# Altium footprint library MP6570GR-xxxx-P.PcbLib: 3 footprints
Each footprint in its own frame and in the unit in brackets; x right, y up, seen from the top. Pads: shape width x height; smd on the part's side, far side on the other; paste and mask are expansions set on the pad; w line width, h text height; cw(c..) or ccw(c..) is an arc to the next point about the centre after c.
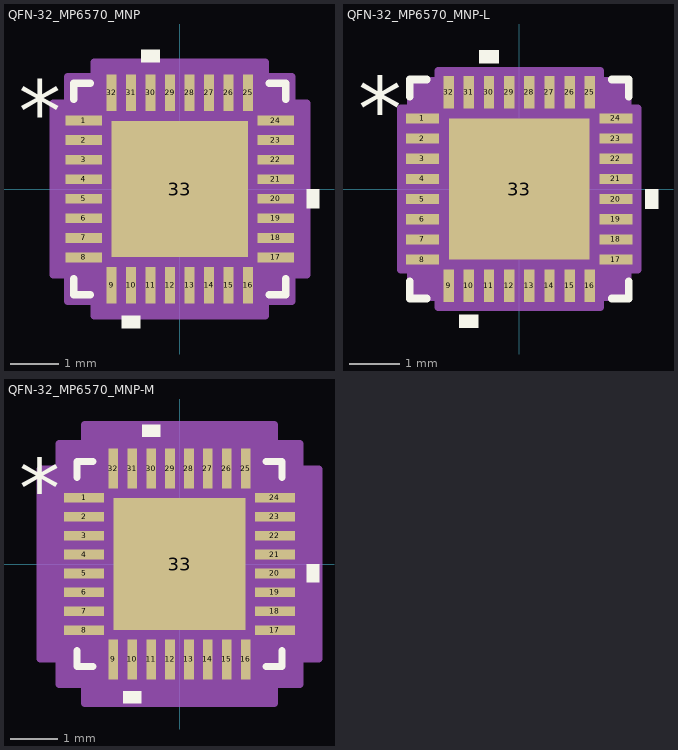
[diagram p0: the footprints below, top view; thin cyan lines are the x and y axes]

## QFN-32_MP6570_MNP [mm]
pads (33):
  rect 0.75x0.204 smd paste+0 mask+0: 1(-1.97,1.4) 2(-1.97,1) 3(-1.97,0.6) 4(-1.97,0.2) 5(-1.97,-0.2) 6(-1.97,-0.6) 7(-1.97,-1) 8(-1.97,-1.4) 17(1.97,-1.4) 18(1.97,-1) 19(1.97,-0.6) 20(1.97,-0.2) 21(1.97,0.2) 22(1.97,0.6) 23(1.97,1) 24(1.97,1.4)
  rect 0.204x0.75 smd paste+0 mask+0: 9(-1.4,-1.97) 10(-1,-1.97) 11(-0.6,-1.97) 12(-0.2,-1.97) 13(0.2,-1.97) 14(0.6,-1.97) 15(1,-1.97) 16(1.4,-1.97) 25(1.4,1.97) 26(1,1.97) 27(0.6,1.97) 28(0.2,1.97) 29(-0.2,1.97) 30(-0.6,1.97) 31(-1,1.97) 32(-1.4,1.97)
  rect 2.794x2.794 smd paste-1.397 mask+0: 33(0,0)
Top Overlay:
  region: -0.409,2.599 -0.79,2.599 -0.79,2.853 -0.409,2.853
  region: 2.599,-0.009 2.853,-0.009 2.853,-0.39 2.599,-0.39
  region: -0.81,-2.599 -1.191,-2.599 -1.191,-2.853 -0.81,-2.853
  lines w0.152: -2.172,-1.835 -2.172,-2.172 -1.835,-2.172 ; -2.172,1.835 -2.172,2.172 -1.835,2.172 ; 1.835,-2.172 2.172,-2.172 2.172,-1.835 ; 1.835,2.172 2.172,2.172 2.172,1.835
  text "*" at -3.297,0.965 h1.27
Top Paste:
  region: 1.297,-0.1 0.1,-0.1 0.1,-1.297 1.297,-1.297
  region: 1.297,1.297 0.1,1.297 0.1,0.1 1.297,0.1
  region: -0.1,-0.1 -1.297,-0.1 -1.297,-1.297 -0.1,-1.297
  region: -0.1,1.297 -1.297,1.297 -1.297,0.1 -0.1,0.1
Mechanical 13:
  lines w0.025: -2.045,0.775 -0.775,2.045 ; -2.045,-2.045 -2.045,2.045 2.045,2.045 2.045,-2.045 -2.045,-2.045 ; -2.045,-1.527 -2.045,-1.273 -2.045,-1.527 ; -2.045,-1.127 -2.045,-0.873 -2.045,-1.127 ; -2.045,-0.727 -2.045,-0.473 -2.045,-0.727 ; -2.045,-0.327 -2.045,-0.073 -2.045,-0.327 ; -2.045,0.073 -2.045,0.327 -2.045,0.073 ; -2.045,0.473 -2.045,0.727 -2.045,0.473 ; -2.045,0.873 -2.045,1.127 -2.045,0.873 ; -2.045,1.273 -2.045,1.527 -2.045,1.273 ; -1.527,-2.045 -1.273,-2.045 -1.527,-2.045 ; -1.527,2.045 -1.273,2.045 -1.527,2.045 ; -1.127,-2.045 -0.873,-2.045 -1.127,-2.045 ; -1.127,2.045 -0.873,2.045 -1.127,2.045 ; -0.727,-2.045 -0.473,-2.045 -0.727,-2.045 ; -0.727,2.045 -0.473,2.045 -0.727,2.045 ; -0.327,-2.045 -0.073,-2.045 -0.327,-2.045 ; -0.327,2.045 -0.073,2.045 -0.327,2.045 ; 0.073,-2.045 0.327,-2.045 0.073,-2.045 ; 0.073,2.045 0.327,2.045 0.073,2.045 ; 0.473,-2.045 0.727,-2.045 0.473,-2.045 ; 0.473,2.045 0.727,2.045 0.473,2.045 ; 0.873,-2.045 1.127,-2.045 0.873,-2.045 ; 0.873,2.045 1.127,2.045 0.873,2.045 ; 1.273,-2.045 1.527,-2.045 1.273,-2.045 ; 1.273,2.045 1.527,2.045 1.273,2.045 ; 2.045,-1.527 2.045,-1.273 2.045,-1.527 ; 2.045,-1.127 2.045,-0.873 2.045,-1.127 ; 2.045,-0.727 2.045,-0.473 2.045,-0.727 ; 2.045,-0.327 2.045,-0.073 2.045,-0.327 ; 2.045,0.073 2.045,0.327 2.045,0.073 ; 2.045,0.473 2.045,0.727 2.045,0.473 ; 2.045,0.873 2.045,1.127 2.045,0.873 ; 2.045,1.273 2.045,1.527 2.045,1.273
  text "*" at -1.912,0.965 h1.27
Mechanical 15:
  region: -1.756,-2.299 -2.299,-2.299 -2.299,-1.756 -2.599,-1.756 -2.599,1.756 -2.299,1.756 -2.299,2.299 -1.756,2.299 -1.756,2.599 1.756,2.599 1.756,2.299 2.299,2.299 2.299,1.756 2.599,1.756 2.599,-1.756 2.299,-1.756 2.299,-2.299 1.756,-2.299 1.756,-2.599 -1.756,-2.599
  lines w0.152: -2.599,-1.756 -2.599,1.756 -2.299,1.756 -2.299,2.299 -1.756,2.299 -1.756,2.599 1.756,2.599 1.756,2.299 2.299,2.299 2.299,1.756 2.599,1.756 2.599,-1.756 2.299,-1.756 2.299,-2.299 1.756,-2.299 1.756,-2.599 -1.756,-2.599 -1.756,-2.299 -2.299,-2.299 -2.299,-1.756 -2.599,-1.756
3D body "QFN-32_MP6570_MNP.step": height 1, standoff 0, extent -2.045,-2.045 2.045,2.045

## QFN-32_MP6570_MNP-L [mm]
pads (33):
  rect 0.65x0.204 smd paste+0 mask+0: 1(-1.92,1.4) 2(-1.92,1) 3(-1.92,0.6) 4(-1.92,0.2) 5(-1.92,-0.2) 6(-1.92,-0.6) 7(-1.92,-1) 8(-1.92,-1.4) 17(1.92,-1.4) 18(1.92,-1) 19(1.92,-0.6) 20(1.92,-0.2) 21(1.92,0.2) 22(1.92,0.6) 23(1.92,1) 24(1.92,1.4)
  rect 0.204x0.65 smd paste+0 mask+0: 9(-1.4,-1.92) 10(-1,-1.92) 11(-0.6,-1.92) 12(-0.2,-1.92) 13(0.2,-1.92) 14(0.6,-1.92) 15(1,-1.92) 16(1.4,-1.92) 25(1.4,1.92) 26(1,1.92) 27(0.6,1.92) 28(0.2,1.92) 29(-0.2,1.92) 30(-0.6,1.92) 31(-1,1.92) 32(-1.4,1.92)
  rect 2.794x2.794 smd paste-1.397 mask+0: 33(0,0)
Top Overlay:
  region: -0.81,-2.499 -1.191,-2.499 -1.191,-2.753 -0.81,-2.753
  region: 2.499,-0.009 2.753,-0.009 2.753,-0.39 2.499,-0.39
  region: -0.409,2.499 -0.79,2.499 -0.79,2.753 -0.409,2.753
  lines w0.152: -2.172,-1.835 -2.172,-2.172 -1.835,-2.172 ; -2.172,1.835 -2.172,2.172 -1.835,2.172 ; 1.835,-2.172 2.172,-2.172 2.172,-1.835 ; 1.835,2.172 2.172,2.172 2.172,1.835
  text "*" at -3.197,0.965 h1.27
  text ".Designator" at -3.492,-0.635 h1.27
Top Paste:
  region: -0.1,1.297 -1.297,1.297 -1.297,0.1 -0.1,0.1
  region: -0.1,-0.1 -1.297,-0.1 -1.297,-1.297 -0.1,-1.297
  region: 1.297,1.297 0.1,1.297 0.1,0.1 1.297,0.1
  region: 1.297,-0.1 0.1,-0.1 0.1,-1.297 1.297,-1.297
Mechanical 13:
  lines w0.025: -2.045,0.775 -0.775,2.045 ; -2.045,-2.045 2.045,-2.045 ; -2.045,-2.045 -2.045,2.045 ; -2.045,-2.045 -2.045,-2.045 ; -2.045,-1.527 -2.045,-1.273 ; -2.045,-1.527 -2.045,-1.273 ; -2.045,-1.527 -2.045,-1.527 ; -2.045,-1.273 -2.045,-1.273 ; -2.045,-1.127 -2.045,-0.873 ; -2.045,-1.127 -2.045,-0.873 ; -2.045,-1.127 -2.045,-1.127 ; -2.045,-0.873 -2.045,-0.873 ; -2.045,-0.727 -2.045,-0.473 ; -2.045,-0.727 -2.045,-0.473 ; -2.045,-0.727 -2.045,-0.727 ; -2.045,-0.473 -2.045,-0.473 ; -2.045,-0.327 -2.045,-0.073 ; -2.045,-0.327 -2.045,-0.073 ; -2.045,-0.327 -2.045,-0.327 ; -2.045,-0.073 -2.045,-0.073 ; -2.045,0.073 -2.045,0.327 ; -2.045,0.073 -2.045,0.327 ; -2.045,0.073 -2.045,0.073 ; -2.045,0.327 -2.045,0.327 ; -2.045,0.473 -2.045,0.727 ; -2.045,0.473 -2.045,0.727 ; -2.045,0.473 -2.045,0.473 ; -2.045,0.727 -2.045,0.727 ; -2.045,0.873 -2.045,1.127 ; -2.045,0.873 -2.045,1.127 ; -2.045,0.873 -2.045,0.873 ; -2.045,1.127 -2.045,1.127 ; -2.045,1.273 -2.045,1.527 ; -2.045,1.273 -2.045,1.527 ; -2.045,1.273 -2.045,1.273 ; -2.045,1.527 -2.045,1.527 ; -2.045,2.045 2.045,2.045 ; -2.045,2.045 -2.045,2.045 ; -1.527,-2.045 -1.273,-2.045 ; -1.527,-2.045 -1.527,-2.045 ; -1.527,-2.045 -1.273,-2.045 ; -1.527,2.045 -1.273,2.045 ; -1.527,2.045 -1.273,2.045 ; -1.527,2.045 -1.527,2.045 ; -1.273,-2.045 -1.273,-2.045 ; -1.273,2.045 -1.273,2.045 ; -1.127,-2.045 -0.873,-2.045 ; -1.127,-2.045 -1.127,-2.045 ; -1.127,-2.045 -0.873,-2.045 ; -1.127,2.045 -0.873,2.045 ; -1.127,2.045 -0.873,2.045 ; -1.127,2.045 -1.127,2.045 ; -0.873,-2.045 -0.873,-2.045 ; -0.873,2.045 -0.873,2.045 ; -0.727,-2.045 -0.473,-2.045 ; -0.727,-2.045 -0.727,-2.045 ; -0.727,-2.045 -0.473,-2.045 ; -0.727,2.045 -0.473,2.045 ; -0.727,2.045 -0.473,2.045 ; -0.727,2.045 -0.727,2.045 ; -0.473,-2.045 -0.473,-2.045 ; -0.473,2.045 -0.473,2.045 ; -0.327,-2.045 -0.073,-2.045 ; -0.327,-2.045 -0.327,-2.045 ; -0.327,-2.045 -0.073,-2.045 ; -0.327,2.045 -0.073,2.045 ; -0.327,2.045 -0.073,2.045 ; -0.327,2.045 -0.327,2.045 ; -0.073,-2.045 -0.073,-2.045 ; -0.073,2.045 -0.073,2.045 ; 0.073,-2.045 0.327,-2.045 ; 0.073,-2.045 0.073,-2.045 ; 0.073,-2.045 0.327,-2.045 ; 0.073,2.045 0.327,2.045 ; 0.073,2.045 0.327,2.045 ; 0.073,2.045 0.073,2.045 ; 0.327,-2.045 0.327,-2.045 ; 0.327,2.045 0.327,2.045 ; 0.473,-2.045 0.727,-2.045 ; 0.473,-2.045 0.473,-2.045 ; 0.473,-2.045 0.727,-2.045 ; 0.473,2.045 0.727,2.045 ; 0.473,2.045 0.727,2.045 ; 0.473,2.045 0.473,2.045 ; 0.727,-2.045 0.727,-2.045 ; 0.727,2.045 0.727,2.045 ; 0.873,-2.045 1.127,-2.045 ; 0.873,-2.045 0.873,-2.045 ; 0.873,-2.045 1.127,-2.045 ; 0.873,2.045 1.127,2.045 ; 0.873,2.045 1.127,2.045 ; 0.873,2.045 0.873,2.045 ; 1.127,-2.045 1.127,-2.045 ; 1.127,2.045 1.127,2.045 ; 1.273,-2.045 1.527,-2.045 ; 1.273,-2.045 1.273,-2.045 ; 1.273,-2.045 1.527,-2.045 ; 1.273,2.045 1.527,2.045 ; 1.273,2.045 1.527,2.045 ; 1.273,2.045 1.273,2.045 ; 1.527,-2.045 1.527,-2.045 ; 1.527,2.045 1.527,2.045 ; 2.045,-2.045 2.045,-2.045 ; 2.045,-2.045 2.045,2.045 ; 2.045,-1.527 2.045,-1.273 ; 2.045,-1.527 2.045,-1.527 ; 2.045,-1.527 2.045,-1.273 ; 2.045,-1.273 2.045,-1.273 ; 2.045,-1.127 2.045,-0.873 ; 2.045,-1.127 2.045,-1.127 ; 2.045,-1.127 2.045,-0.873 ; 2.045,-0.873 2.045,-0.873 ; 2.045,-0.727 2.045,-0.473 ; 2.045,-0.727 2.045,-0.727 ; 2.045,-0.727 2.045,-0.473 ; 2.045,-0.473 2.045,-0.473 ; 2.045,-0.327 2.045,-0.073 ; 2.045,-0.327 2.045,-0.327 ; 2.045,-0.327 2.045,-0.073 ; 2.045,-0.073 2.045,-0.073 ; 2.045,0.073 2.045,0.327 ; 2.045,0.073 2.045,0.073 ; 2.045,0.073 2.045,0.327 ; 2.045,0.327 2.045,0.327 ; 2.045,0.473 2.045,0.727 ; 2.045,0.473 2.045,0.473 ; 2.045,0.473 2.045,0.727 ; 2.045,0.727 2.045,0.727 ; 2.045,0.873 2.045,1.127 ; 2.045,0.873 2.045,0.873 ; 2.045,0.873 2.045,1.127 ; 2.045,1.127 2.045,1.127 ; 2.045,1.273 2.045,1.527 ; 2.045,1.273 2.045,1.273 ; 2.045,1.273 2.045,1.527 ; 2.045,1.527 2.045,1.527 ; 2.045,2.045 2.045,2.045
  text ".Designator" at -3.492,-0.635 h1.27
  text "*" at -1.912,0.965 h1.27
Mechanical 15:
  region: -1.604,-2.146 -2.146,-2.146 -2.146,-1.604 -2.346,-1.604 -2.346,1.604 -2.146,1.604 -2.146,2.146 -1.604,2.146 -1.604,2.346 1.604,2.346 1.604,2.146 2.146,2.146 2.146,1.604 2.346,1.604 2.346,-1.604 2.146,-1.604 2.146,-2.146 1.604,-2.146 1.604,-2.346 -1.604,-2.346
  lines w0.152: -2.346,-1.604 -2.146,-1.604 -2.146,-2.146 -1.604,-2.146 -1.604,-2.346 1.604,-2.346 1.604,-2.146 2.146,-2.146 2.146,-1.604 2.346,-1.604 2.346,1.604 2.146,1.604 2.146,2.146 1.604,2.146 1.604,2.346 -1.604,2.346 -1.604,2.146 -2.146,2.146 -2.146,1.604 -2.346,1.604 -2.346,-1.604
3D body "QFN-32_MP6570_MNP.step": height 1, standoff 0, extent -2.045,-2.045 2.045,2.045

## QFN-32_MP6570_MNP-M [mm]
pads (33):
  rect 0.85x0.204 smd paste+0 mask+0: 1(-2.02,1.4) 2(-2.02,1) 3(-2.02,0.6) 4(-2.02,0.2) 5(-2.02,-0.2) 6(-2.02,-0.6) 7(-2.02,-1) 8(-2.02,-1.4) 17(2.02,-1.4) 18(2.02,-1) 19(2.02,-0.6) 20(2.02,-0.2) 21(2.02,0.2) 22(2.02,0.6) 23(2.02,1) 24(2.02,1.4)
  rect 0.204x0.85 smd paste+0 mask+0: 9(-1.4,-2.02) 10(-1,-2.02) 11(-0.6,-2.02) 12(-0.2,-2.02) 13(0.2,-2.02) 14(0.6,-2.02) 15(1,-2.02) 16(1.4,-2.02) 25(1.4,2.02) 26(1,2.02) 27(0.6,2.02) 28(0.2,2.02) 29(-0.2,2.02) 30(-0.6,2.02) 31(-1,2.02) 32(-1.4,2.02)
  rect 2.794x2.794 smd paste-1.397 mask+0: 33(0,0)
Top Overlay:
  region: -0.81,-2.699 -1.191,-2.699 -1.191,-2.953 -0.81,-2.953
  region: 2.699,-0.009 2.953,-0.009 2.953,-0.39 2.699,-0.39
  region: -0.409,2.699 -0.79,2.699 -0.79,2.953 -0.409,2.953
  lines w0.152: -2.172,-1.835 -2.172,-2.172 -1.835,-2.172 ; -2.172,1.835 -2.172,2.172 -1.835,2.172 ; 1.835,-2.172 2.172,-2.172 2.172,-1.835 ; 1.835,2.172 2.172,2.172 2.172,1.835
  text "*" at -3.397,0.965 h1.27
  text ".Designator" at -3.492,-0.635 h1.27
Top Paste:
  region: -0.1,1.297 -1.297,1.297 -1.297,0.1 -0.1,0.1
  region: -0.1,-0.1 -1.297,-0.1 -1.297,-1.297 -0.1,-1.297
  region: 1.297,1.297 0.1,1.297 0.1,0.1 1.297,0.1
  region: 1.297,-0.1 0.1,-0.1 0.1,-1.297 1.297,-1.297
Mechanical 13:
  lines w0.025: -2.045,0.775 -0.775,2.045 ; -2.045,-2.045 2.045,-2.045 ; -2.045,-2.045 -2.045,2.045 ; -2.045,-2.045 -2.045,-2.045 ; -2.045,-1.527 -2.045,-1.273 ; -2.045,-1.527 -2.045,-1.273 ; -2.045,-1.527 -2.045,-1.527 ; -2.045,-1.273 -2.045,-1.273 ; -2.045,-1.127 -2.045,-0.873 ; -2.045,-1.127 -2.045,-0.873 ; -2.045,-1.127 -2.045,-1.127 ; -2.045,-0.873 -2.045,-0.873 ; -2.045,-0.727 -2.045,-0.473 ; -2.045,-0.727 -2.045,-0.473 ; -2.045,-0.727 -2.045,-0.727 ; -2.045,-0.473 -2.045,-0.473 ; -2.045,-0.327 -2.045,-0.073 ; -2.045,-0.327 -2.045,-0.073 ; -2.045,-0.327 -2.045,-0.327 ; -2.045,-0.073 -2.045,-0.073 ; -2.045,0.073 -2.045,0.327 ; -2.045,0.073 -2.045,0.327 ; -2.045,0.073 -2.045,0.073 ; -2.045,0.327 -2.045,0.327 ; -2.045,0.473 -2.045,0.727 ; -2.045,0.473 -2.045,0.727 ; -2.045,0.473 -2.045,0.473 ; -2.045,0.727 -2.045,0.727 ; -2.045,0.873 -2.045,1.127 ; -2.045,0.873 -2.045,1.127 ; -2.045,0.873 -2.045,0.873 ; -2.045,1.127 -2.045,1.127 ; -2.045,1.273 -2.045,1.527 ; -2.045,1.273 -2.045,1.527 ; -2.045,1.273 -2.045,1.273 ; -2.045,1.527 -2.045,1.527 ; -2.045,2.045 2.045,2.045 ; -2.045,2.045 -2.045,2.045 ; -1.527,-2.045 -1.273,-2.045 ; -1.527,-2.045 -1.527,-2.045 ; -1.527,-2.045 -1.273,-2.045 ; -1.527,2.045 -1.273,2.045 ; -1.527,2.045 -1.273,2.045 ; -1.527,2.045 -1.527,2.045 ; -1.273,-2.045 -1.273,-2.045 ; -1.273,2.045 -1.273,2.045 ; -1.127,-2.045 -0.873,-2.045 ; -1.127,-2.045 -1.127,-2.045 ; -1.127,-2.045 -0.873,-2.045 ; -1.127,2.045 -0.873,2.045 ; -1.127,2.045 -0.873,2.045 ; -1.127,2.045 -1.127,2.045 ; -0.873,-2.045 -0.873,-2.045 ; -0.873,2.045 -0.873,2.045 ; -0.727,-2.045 -0.473,-2.045 ; -0.727,-2.045 -0.727,-2.045 ; -0.727,-2.045 -0.473,-2.045 ; -0.727,2.045 -0.473,2.045 ; -0.727,2.045 -0.473,2.045 ; -0.727,2.045 -0.727,2.045 ; -0.473,-2.045 -0.473,-2.045 ; -0.473,2.045 -0.473,2.045 ; -0.327,-2.045 -0.073,-2.045 ; -0.327,-2.045 -0.327,-2.045 ; -0.327,-2.045 -0.073,-2.045 ; -0.327,2.045 -0.073,2.045 ; -0.327,2.045 -0.073,2.045 ; -0.327,2.045 -0.327,2.045 ; -0.073,-2.045 -0.073,-2.045 ; -0.073,2.045 -0.073,2.045 ; 0.073,-2.045 0.327,-2.045 ; 0.073,-2.045 0.073,-2.045 ; 0.073,-2.045 0.327,-2.045 ; 0.073,2.045 0.327,2.045 ; 0.073,2.045 0.327,2.045 ; 0.073,2.045 0.073,2.045 ; 0.327,-2.045 0.327,-2.045 ; 0.327,2.045 0.327,2.045 ; 0.473,-2.045 0.727,-2.045 ; 0.473,-2.045 0.473,-2.045 ; 0.473,-2.045 0.727,-2.045 ; 0.473,2.045 0.727,2.045 ; 0.473,2.045 0.727,2.045 ; 0.473,2.045 0.473,2.045 ; 0.727,-2.045 0.727,-2.045 ; 0.727,2.045 0.727,2.045 ; 0.873,-2.045 1.127,-2.045 ; 0.873,-2.045 0.873,-2.045 ; 0.873,-2.045 1.127,-2.045 ; 0.873,2.045 1.127,2.045 ; 0.873,2.045 1.127,2.045 ; 0.873,2.045 0.873,2.045 ; 1.127,-2.045 1.127,-2.045 ; 1.127,2.045 1.127,2.045 ; 1.273,-2.045 1.527,-2.045 ; 1.273,-2.045 1.273,-2.045 ; 1.273,-2.045 1.527,-2.045 ; 1.273,2.045 1.527,2.045 ; 1.273,2.045 1.527,2.045 ; 1.273,2.045 1.273,2.045 ; 1.527,-2.045 1.527,-2.045 ; 1.527,2.045 1.527,2.045 ; 2.045,-2.045 2.045,-2.045 ; 2.045,-2.045 2.045,2.045 ; 2.045,-1.527 2.045,-1.273 ; 2.045,-1.527 2.045,-1.527 ; 2.045,-1.527 2.045,-1.273 ; 2.045,-1.273 2.045,-1.273 ; 2.045,-1.127 2.045,-0.873 ; 2.045,-1.127 2.045,-1.127 ; 2.045,-1.127 2.045,-0.873 ; 2.045,-0.873 2.045,-0.873 ; 2.045,-0.727 2.045,-0.473 ; 2.045,-0.727 2.045,-0.727 ; 2.045,-0.727 2.045,-0.473 ; 2.045,-0.473 2.045,-0.473 ; 2.045,-0.327 2.045,-0.073 ; 2.045,-0.327 2.045,-0.327 ; 2.045,-0.327 2.045,-0.073 ; 2.045,-0.073 2.045,-0.073 ; 2.045,0.073 2.045,0.327 ; 2.045,0.073 2.045,0.073 ; 2.045,0.073 2.045,0.327 ; 2.045,0.327 2.045,0.327 ; 2.045,0.473 2.045,0.727 ; 2.045,0.473 2.045,0.473 ; 2.045,0.473 2.045,0.727 ; 2.045,0.727 2.045,0.727 ; 2.045,0.873 2.045,1.127 ; 2.045,0.873 2.045,0.873 ; 2.045,0.873 2.045,1.127 ; 2.045,1.127 2.045,1.127 ; 2.045,1.273 2.045,1.527 ; 2.045,1.273 2.045,1.273 ; 2.045,1.273 2.045,1.527 ; 2.045,1.527 2.045,1.527 ; 2.045,2.045 2.045,2.045
  text ".Designator" at -3.492,-0.635 h1.27
  text "*" at -1.912,0.965 h1.27
Mechanical 15:
  region: -2.01,-2.553 -2.553,-2.553 -2.553,-2.01 -2.953,-2.01 -2.953,2.01 -2.553,2.01 -2.553,2.553 -2.01,2.553 -2.01,2.953 2.01,2.953 2.01,2.553 2.553,2.553 2.553,2.01 2.953,2.01 2.953,-2.01 2.553,-2.01 2.553,-2.553 2.01,-2.553 2.01,-2.953 -2.01,-2.953
  lines w0.152: -2.953,-2.01 -2.553,-2.01 -2.553,-2.553 -2.01,-2.553 -2.01,-2.953 2.01,-2.953 2.01,-2.553 2.553,-2.553 2.553,-2.01 2.953,-2.01 2.953,2.01 2.553,2.01 2.553,2.553 2.01,2.553 2.01,2.953 -2.01,2.953 -2.01,2.553 -2.553,2.553 -2.553,2.01 -2.953,2.01 -2.953,-2.01
3D body "QFN-32_MP6570_MNP.step": height 1, standoff 0, extent -2.045,-2.045 2.045,2.045